# EAGLE library part LTC6991 (library FSAE Electric)
Low Frequency Oscillator -Period Range: 1ms to 9.5 Hours -Configured with 1 to 3 Resistors -1.5% Maximum Frequency Error -Output Reset Function -2.25V to 5.5V Single Supply Operation -55μA to 80μA Supply Current -(2ms to 9.5hr Clock Period) -500μs Start-Up Time -CMOS Output Driver Sources/Sinks 20mA
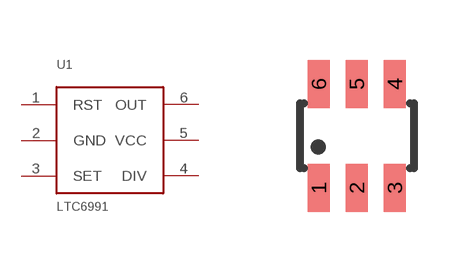
[diagram p3: symbol with the pads of TSOT-23-6; footprint TSOT-23-6]

Designator prefix U1

## LTC6991 (PARTNO: LTC6991HS6#TRMPBF)  [TSOT-23-6]
1  RST
2  GND
3  SET
4  DIV
5  VCC
6  OUT

## Footprint TSOT-23-6 (pad centres in mm)
smd 0.55 x 1.2: 1 -0.95,-1.3; 2 0,-1.3; 3 0.95,-1.3; 4 0.95,1.3; 5 0,1.3; 6 -0.95,1.3